# Altium footprint library BiricuticoBonito.PcbLib: 34 footprints (part 1 of 3)
Each footprint in its own frame and in the unit in brackets; x right, y up, seen from the top. Pads: shape width x height; smd on the part's side, far side on the other; paste and mask are expansions set on the pad; w line width, h text height; cw(c..) or ccw(c..) is an arc to the next point about the centre after c.
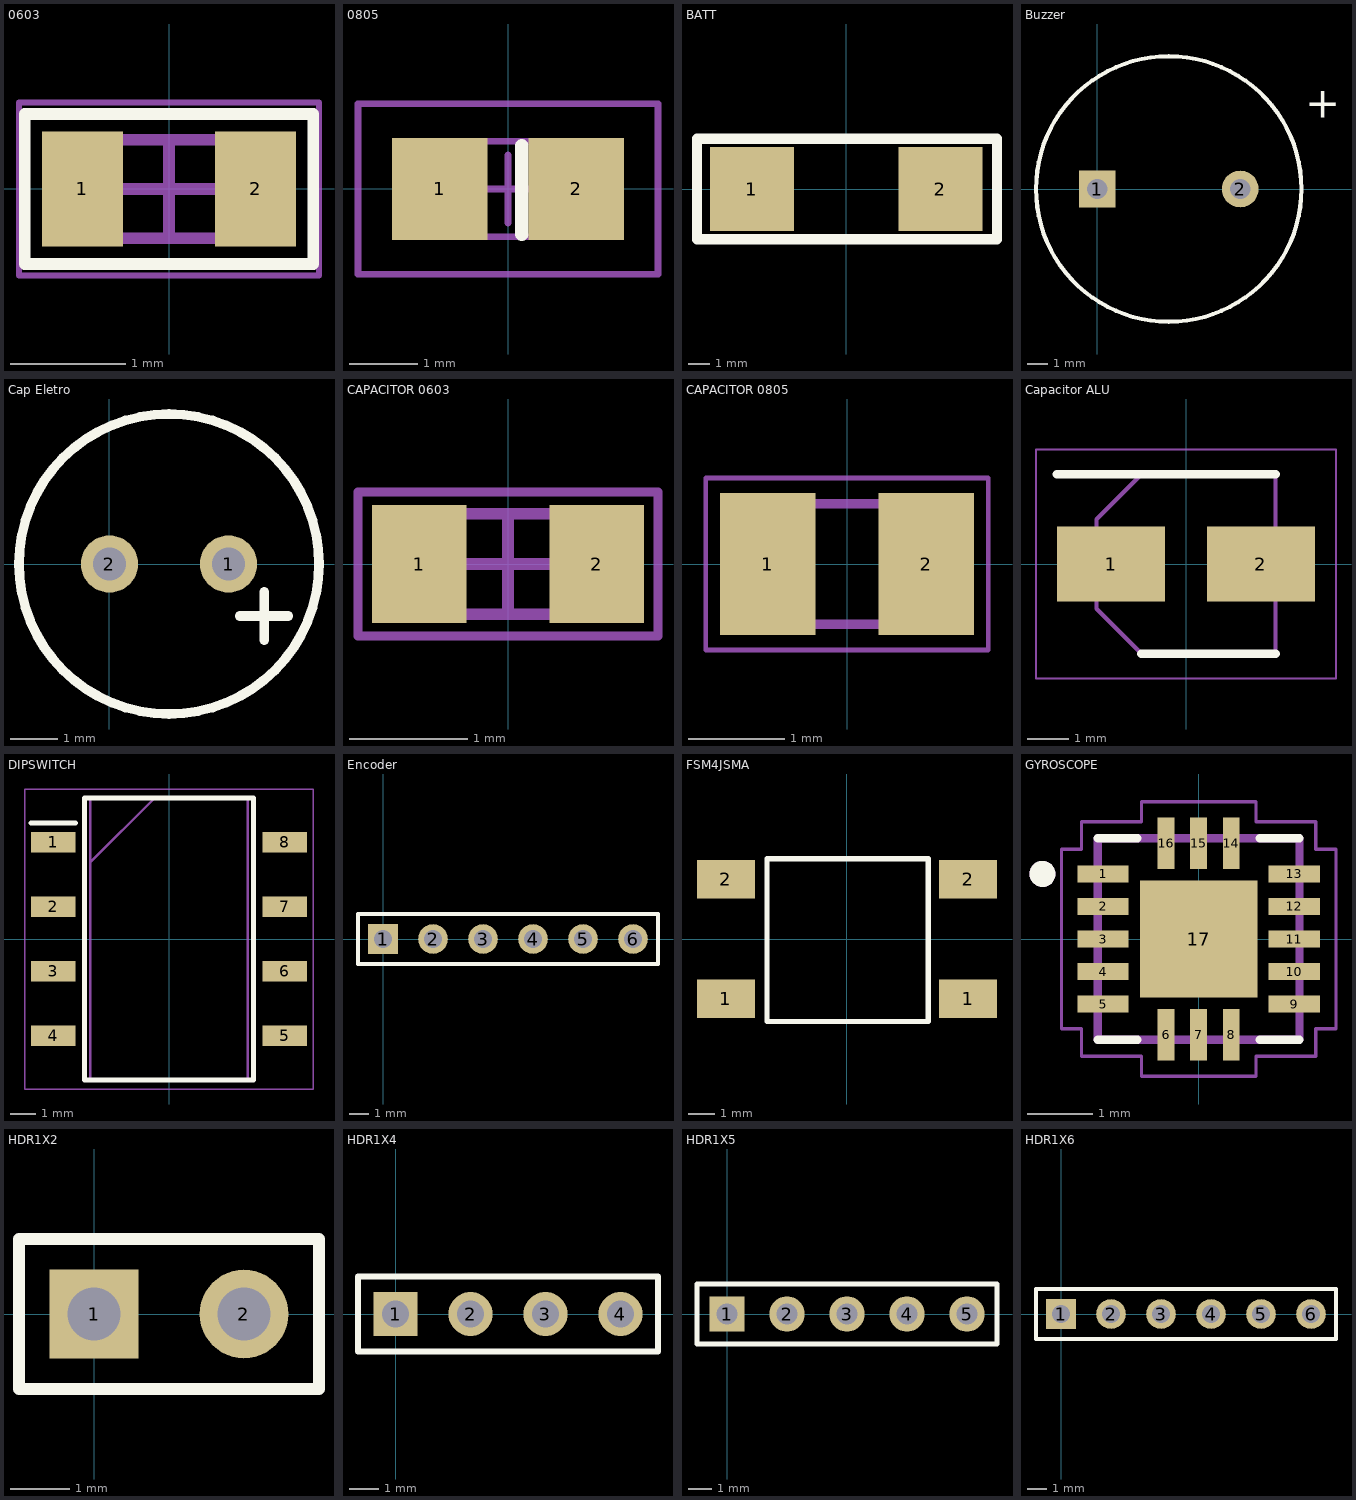
[diagram p0: the footprints below, top view; thin cyan lines are the x and y axes]

## 0603 [mm]
pads (2):
  rect 0.7x1 smd: 1(-0.75,0) 2(0.75,0)
Top Overlay:
  lines w0.1: -1.25,-0.65 1.25,-0.65 1.25,0.65 -1.25,0.65 -1.25,-0.65
Mechanical 13:
  lines w0.1: -0.775,-0.425 0.775,-0.425 0.775,0.425 -0.775,0.425 -0.775,-0.425
Mechanical 15:
  lines w0.05: -1.3,-0.75 1.3,-0.75 1.3,0.75 -1.3,0.75 -1.3,-0.75
  lines w0.1: -0.425,0 0.425,0 ; 0,-0.425 0,0.425
3D body: height 0.4, standoff 0, extent -0.9,-0.525 0.9,0.475

## 0805 [mm]
pads (2):
  rect 1.4x1.5 smd: 1(-1,0) 2(1,0)
Top Overlay:
  lines w0.2: 0.203,-0.665 0.203,0.635
Mechanical 13:
  lines w0.1: -1.075,-0.7 1.075,-0.7 1.075,0.7 -1.075,0.7 -1.075,-0.7
Mechanical 15:
  lines w0.1: -0.5,0 0.5,0 ; 0,-0.5 0,0.5 ; -2.2,-1.25 2.2,-1.25 2.2,1.25 -2.2,1.25 -2.2,-1.25
3D body "User Library-RES_2013-0805.STEP": height 0.76, standoff 0, extent -1.15,-0.675 1.15,0.675

## BATT [mm]
pads (2):
  rect 4x4 smd: 1(-4.5,0) 2(4.5,0)
Top Overlay:
  lines w0.5: -7.123,-2.4 -7.123,2.4 7.204,2.4 7.204,-2.4 -7.123,-2.4

## Buzzer [mm]
pads (2):
  rect 1.8x1.8 hole 1: 1(0,0)
  round 1.8 hole 1: 2(7,0)
Top Overlay:
  circle w0.2: c3.5,0 r6.5
  text "+" at 10.189,3.48 h1.5

## Cap Eletro [mm]
pads (2):
  round 1.2 hole 0.7: 1(2.501,0) 2(0.001,0)
Top Overlay:
  circle w0.2: c1.251,0 r3.15
  lines w0.2: 2.74,-1.092 3.756,-1.092 ; 3.248,-1.6 3.248,-0.584

## CAPACITOR 0603 [mm]
height 0.4
pads (2):
  rect 0.8x1 smd: 1(-0.75,0) 2(0.75,0)
Mechanical 13:
  lines w0.1: -0.775,-0.425 -0.775,0.425 0.775,0.425 0.775,-0.425 -0.775,-0.425
Mechanical 15:
  lines w0.08: 1.245,-0.61 -1.27,-0.61 -1.27,0.61 1.245,0.61 ; 1.27,-0.61 1.27,0.61
  lines w0.1: -0.425,0 0.425,0 ; 0,-0.425 0,0.425
3D body "Capacitor 0603.step": height 0.8, standoff 0, extent -0.85,-0.468 0.85,0.432

## CAPACITOR 0805 [mm]
pads (2):
  rect 0.99x1.47 smd: 1(-0.82,0) 2(0.82,0)
Mechanical 13:
  lines w0.1: -1,-0.625 -1,0.625 1,0.625 1,-0.625 -1,-0.625
Mechanical 15:
  lines w0.05: -1.465,-0.89 -1.465,0.89 1.465,0.89 1.465,-0.89 -1.465,-0.89
3D body "VJ0805Y104KXAAT.stp": height 1.45, standoff 0, extent -1,-0.625 1,0.625

## Capacitor ALU [mm]
pads (2):
  rect 2.6x1.8 smd: 1(-1.8,0) 2(1.8,0)
Top Overlay:
  lines w0.2: -3.1,2.15 2.15,2.15 ; -1.075,-2.15 2.15,-2.15
Mechanical 13:
  lines w0.1: -2.15,-1.075 -1.075,-2.15 2.15,-2.15 2.15,2.15 -1.075,2.15 -2.15,1.075 -2.15,-1.075
Mechanical 15:
  lines w0.05: -3.6,-2.75 -3.6,2.75 3.6,2.75 3.6,-2.75 -3.6,-2.75
3D body "EEE-FC1H2R2R.stp": height 5.5, standoff 0, extent -2.3,-2.25 2.3,2.25

## DIPSWITCH [mm]
pads (8):
  rect 1.75x0.8 smd: 1(-4.55,3.81) 2(-4.55,1.27) 3(-4.55,-1.27) 4(-4.55,-3.81) 5(4.55,-3.81) 6(4.55,-1.27) 7(4.55,1.27) 8(4.55,3.81)
Top Overlay:
  lines w0.2: -5.425,4.56 -3.675,4.56 ; -3.325,-5.55 3.325,-5.55 3.325,5.55 -3.325,5.55 -3.325,-5.55
Mechanical 15:
  lines w0.1: -3.1,3.01 -0.56,5.55 ; -3.1,-5.55 3.1,-5.55 3.1,5.55 -3.1,5.55 -3.1,-5.55
Mechanical 20:
  lines w0.05: -5.675,-5.9 5.675,-5.9 5.675,5.9 -5.675,5.9 -5.675,-5.9

## Encoder [mm]
pads (6):
  rect 1.5x1.5 hole 0.9: 1(0,0)
  round 1.5 hole 0.9: 2(2.54,0) 3(5.08,0) 4(7.62,0) 5(10.16,0) 6(12.7,0)
Top Overlay:
  lines w0.2: -1.27,-1.27 13.97,-1.27 13.97,1.27 -1.27,1.27 -1.27,-1.27

## FSM4JSMA [mm]
pads (4):
  rect 2.18x1.45 smd: 1(-4.55,-2.25) 1(4.55,-2.25) 2(-4.55,2.25) 2(4.55,2.25)
Top Overlay:
  lines w0.2: -3.007,3.012 3.05,3.012 ; -3.006,-3.1 -3.006,3 ; -3,-3.104 3.05,-3.104 ; 3.05,-3.072 3.05,3

## GYROSCOPE [mm]
pads (17):
  rect 0.79x0.26 smd: 1(-1.47,1) 2(-1.47,0.5) 3(-1.47,0) 4(-1.47,-0.5) 5(-1.47,-1) 9(1.47,-1) 10(1.47,-0.5) 11(1.47,0) 12(1.47,0.5) 13(1.47,1)
  rect 0.26x0.79 smd: 6(-0.5,-1.47) 7(0,-1.47) 8(0.5,-1.47) 14(0.5,1.47) 15(0,1.47) 16(-0.5,1.47)
  rect 1.8x1.8 smd: 17(0,0)
Top Overlay:
  circle w0.2: c-2.4,1 r0.1
  lines w0.127: -1.55,-1.55 -0.94,-1.55 ; -1.55,1.55 -0.94,1.55 ; 0.94,-1.55 1.55,-1.55 ; 0.94,1.55 1.55,1.55
Top Paste:
  region: -0.73,0.73 -0.09,0.73 -0.09,0.09 -0.73,0.09
  region: 0.09,0.73 0.73,0.73 0.73,0.09 0.09,0.09
  region: -0.73,-0.09 -0.09,-0.09 -0.09,-0.73 -0.73,-0.73
  region: 0.09,-0.09 0.73,-0.09 0.73,-0.73 0.09,-0.73
Mechanical 4:
  circle w0.2: c-2.4,1 r0.1
  circle w0.2: c-2.4,1 r0.1
  lines w0.127: -1.55,-1.55 -1.55,1.55 ; -1.55,-1.55 1.55,-1.55 ; -1.55,-1.55 -1.55,1.55 ; -1.55,-1.55 1.55,-1.55 ; -1.55,1.55 1.55,1.55 ; -1.55,1.55 1.55,1.55 ; 1.55,-1.55 1.55,1.55 ; 1.55,-1.55 1.55,1.55
Mechanical 13:
  lines w0.05: -2.11,-1.38 -2.11,1.38 -1.8,1.38 -1.8,1.8 -0.88,1.8 -0.88,2.11 0.88,2.11 0.88,1.8 1.8,1.8 1.8,1.38 2.11,1.38 2.11,-1.38 1.8,-1.38 1.8,-1.8 0.88,-1.8 0.88,-2.11 -0.88,-2.11 -0.88,-1.8 -1.8,-1.8 -1.8,-1.38 -2.11,-1.38

## HDR1X2 [mm] "Connector; Header; 2 Position"
pads (2):
  rect 1.5x1.5 hole 0.9: 1(0,0)
  round 1.5 hole 0.9: 2(2.54,0)
Top Overlay:
  lines w0.2: -1.27,-1.27 -1.27,1.27 3.81,1.27 3.81,-1.27 -1.27,-1.27

## HDR1X4 [mm] "Connector; Header; 4 Position"
pads (4):
  rect 1.5x1.5 hole 0.9: 1(0,0)
  round 1.5 hole 0.9: 2(2.54,0) 3(5.08,0) 4(7.62,0)
Top Overlay:
  lines w0.2: -1.27,-1.27 -1.27,1.27 8.89,1.27 8.89,-1.27 -1.27,-1.27

## HDR1X5 [mm] "Connector; Header; 5 Position"
pads (5):
  rect 1.5x1.5 hole 0.9: 1(0,0)
  round 1.5 hole 0.9: 2(2.54,0) 3(5.08,0) 4(7.62,0) 5(10.16,0)
Top Overlay:
  lines w0.2: -1.27,-1.27 11.43,-1.27 11.43,1.27 -1.27,1.27 -1.27,-1.27

## HDR1X6 [mm] "Connector; Header; 6 Position"
pads (6):
  rect 1.5x1.5 hole 0.9: 1(0,0)
  round 1.5 hole 0.9: 2(2.54,0) 3(5.08,0) 4(7.62,0) 5(10.16,0) 6(12.7,0)
Top Overlay:
  lines w0.2: -1.27,-1.27 -1.27,1.27 13.97,1.27 13.97,-1.27 -1.27,-1.27